# Altium footprint library 691311400104.PcbLib: 1 footprints
Each footprint in its own frame and in the unit in brackets; x right, y up, seen from the top. Pads: shape width x height; smd on the part's side, far side on the other; paste and mask are expansions set on the pad; w line width, h text height; cw(c..) or ccw(c..) is an arc to the next point about the centre after c.
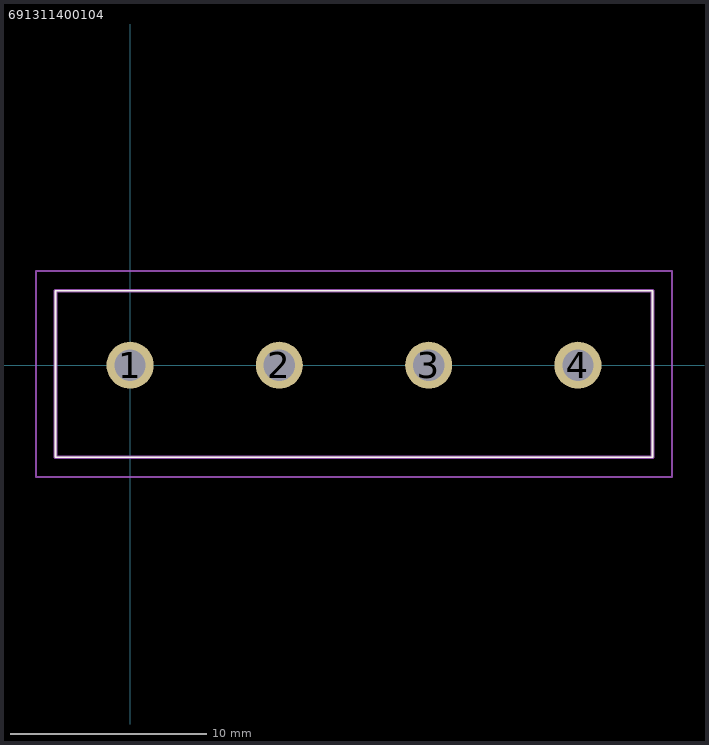
[diagram p0: the footprint, top view; thin cyan lines are the x and y axes]

## 691311400104 [mm]
pads (4):
  round 2.4 hole 1.6: 1(0,0) 2(7.62,0) 3(15.24,0) 4(22.86,0)
Top Overlay:
  lines w0.1: -3.81,-4.7 26.67,-4.7 26.67,3.8 -3.81,3.8 -3.81,-4.7
Mechanical 15:
  lines w0.2: -3.81,-4.7 26.67,-4.7 26.67,3.8 -3.81,3.8 -3.81,-4.7
Mechanical 20:
  lines w0.1: -4.81,-5.7 27.67,-5.7 27.67,4.8 -4.81,4.8 -4.81,-5.7